# EAGLE library part ADAFRUIT-MAX31855-BREAKOUT (library IntelliRoast)
PIN HEADER
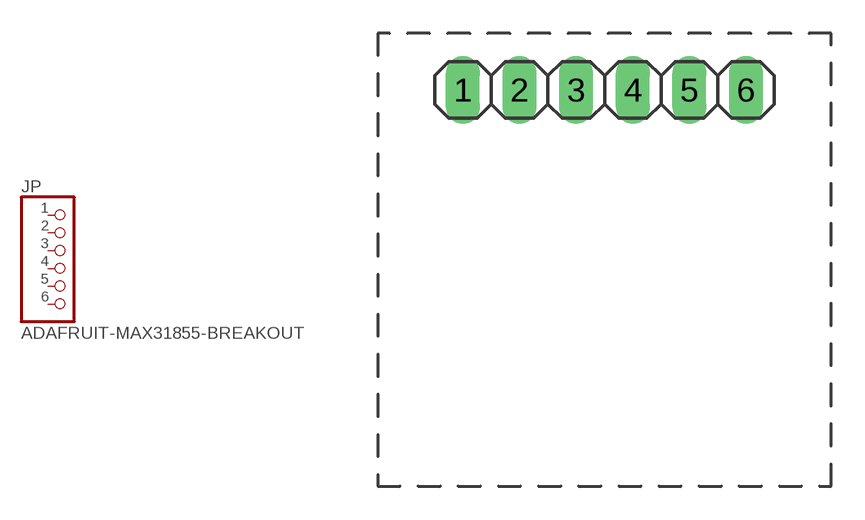
[diagram p0: symbol with the pads of MAX31855_HEADER; footprint MAX31855_HEADER]

Designator prefix JP

## ADAFRUIT-MAX31855-BREAKOUT  [MAX31855_HEADER]
1  1  pas
2  2  pas
3  3  pas
4  4  pas
5  5  pas
6  6  pas

## Footprint MAX31855_HEADER (pad centres in mm)
PIN HEADER
drill 1.016 long: 1 -6.35,0; 2 -3.81,0; 3 -1.27,0; 4 1.27,0; 5 3.81,0; 6 6.35,0